# EAGLE library part TMP007-1 (library tempSen)
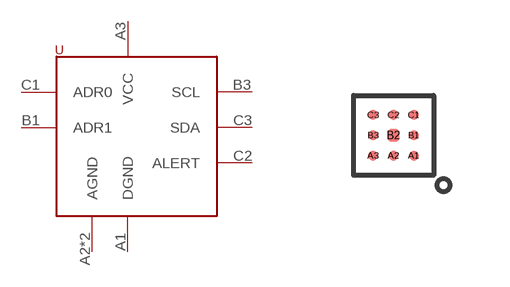
[diagram p0: symbol with the pads of DSBGA; footprint DSBGA]

Designator prefix -

## TMP007-1  [DSBGA]
A1  DGND
A2  AGND
A3  VCC
B1  ADR1
B2  AGND
B3  SCL
C1  ADR0
C2  ALERT
C3  SDA

## Footprint DSBGA (pad centres in mm)
smd 0.254 x 0.254: A1 0.508,-0.508; A2 0,-0.508; A3 -0.508,-0.508; B1 0.508,0; B3 -0.508,0; C1 0.508,0.508; C2 0,0.508; C3 -0.508,0.508
smd 0.305 x 0.305: B2 0,0